# EAGLE library part DS1682 (library di_ic)
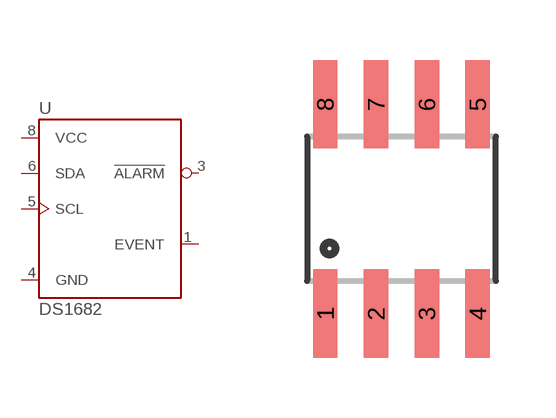
[diagram p10: symbol with the pads of SO08; footprint SO08]

Designator prefix -

## DS1682  [SO08]
1  EVENT  in
3  !ALARM  in
4  GND  pwr
5  SCL  in
6  SDA  in
8  VCC  pwr

## Footprint SO08 (pad centres in mm)
Small Outline Package Fits JEDEC packages (narrow SOIC-8)
smd 0.61 x 2.21: 1 -1.905,-2.616; 2 -0.635,-2.616; 3 0.635,-2.616; 4 1.905,-2.616; 5 1.905,2.616; 6 0.635,2.616; 7 -0.635,2.616; 8 -1.905,2.616